# Altium schematic symbol library ANALOG AD849X.SchLib: 1 symbol
Pins are listed as number, name and electrical type; pins without a type are passive.

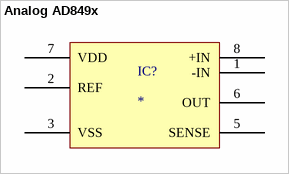
[diagram p0: symbol Analog AD849x]

## Analog AD849x
designator IC?
pins: 1 -IN, 2 REF, 3 VSS, 5 SENSE, 6 OUT, 7 VDD, 8 +IN